# Altium schematic symbol library QFN56-socket.SchLib: 1 symbol
Pins are listed as number, name and electrical type; pins without a type are passive.

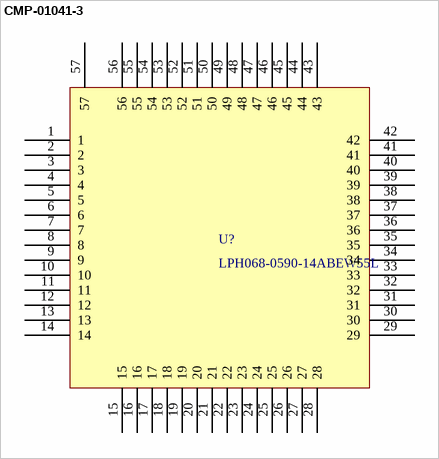
[diagram p0: symbol CMP-01041-3]

## CMP-01041-3
designator U?, comment LPH068-0590-14ABEW55L
QFN56 Socket; Manufacturer: E-tec; Pitch: 0.5mm; Temperature Range: -55 to 125 degC; P/N: LPH068-0590-14ABEW55L; Orientation: Vertical; RoHS: True; Mounting Technology: SMT
footprint LPH068-0590-14ABEW55L (QFN-56 Testsocket E-tec CSP QFN56_0.5)
pins: 1, 2, 3, 4, 5, 6, 7, 8, 9, 10, 11, 12, 13, 14, 15, 16, 17, 18, 19, 20, 21, 22, 23, 24, 25, 26, 27, 28, 29, 30, 31, 32, 33, 34, 35, 36, 37, 38, 39, 40, 41, 42, 43, 44, 45, 46, 47, 48, 49, 50, 51, 52, 53, 54, 55, 56, 57